# Altium footprint library QFN.PcbLib: 20 footprints (part 1 of 2)
Each footprint in its own frame and in the unit in brackets; x right, y up, seen from the top. Pads: shape width x height; smd on the part's side, far side on the other; paste and mask are expansions set on the pad; w line width, h text height; cw(c..) or ccw(c..) is an arc to the next point about the centre after c.
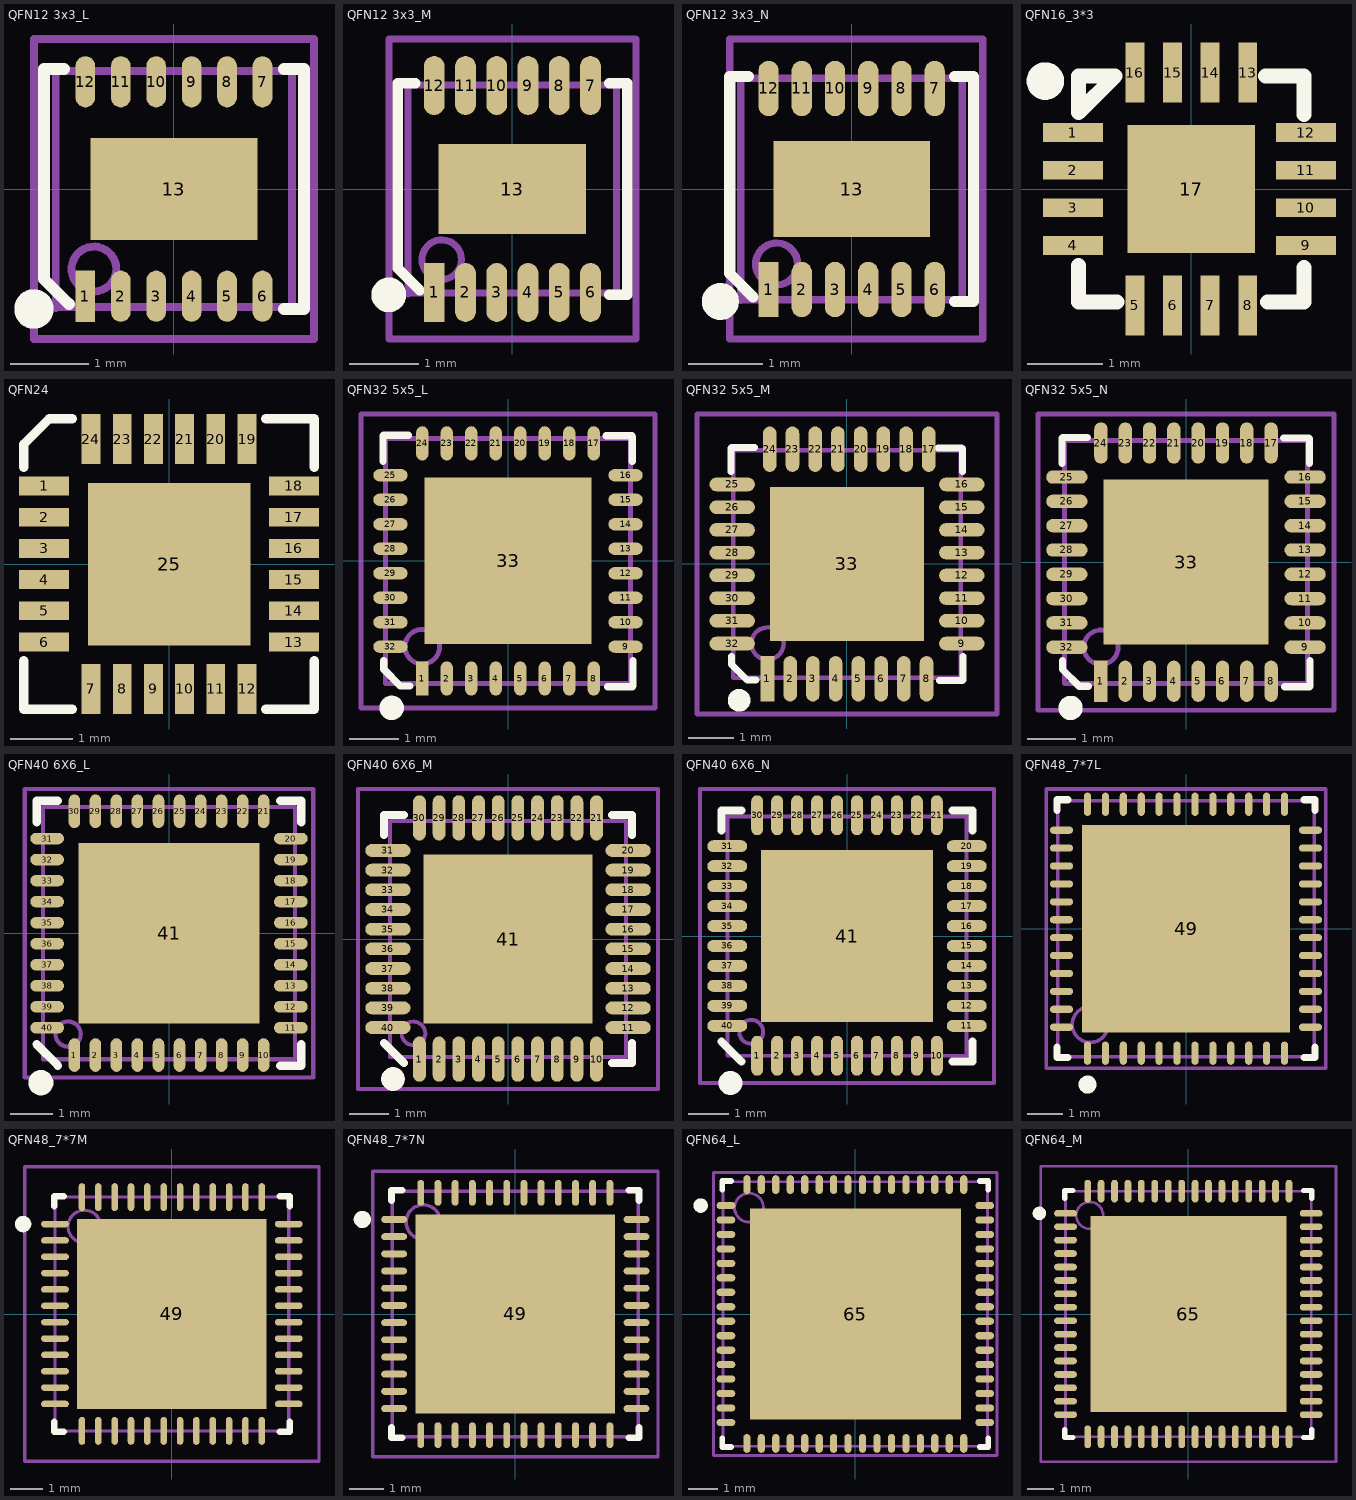
[diagram p0: the footprints below, top view; thin cyan lines are the x and y axes]

## QFN12 3x3_L [mm] "12脚，长：3mm，宽：3mm，高：0.6mm"
pads (13):
  rect 0.25x0.65 smd: 1(-1.125,-1.362)
  oval 0.25x0.65 smd: 2(-0.675,-1.362) 3(-0.225,-1.362) 4(0.225,-1.362) 5(0.675,-1.362) 6(1.125,-1.362) 7(1.125,1.362) 8(0.675,1.362) 9(0.225,1.362) 10(-0.225,1.362) 11(-0.675,1.362) 12(-1.125,1.362)
  rect 2.12x1.3 smd: 13(0,0)
Top Overlay:
  circle w0.25: c-1.778,-1.524 r0.125
  lines w0.15: -1.397,1.524 -1.651,1.524 -1.651,-1.143 -1.333,-1.46 ; 1.397,-1.524 1.651,-1.524 1.651,1.524 1.397,1.524
Mechanical 13:
  circle w0.1: c-1.016,-1.016 r0.284
  lines w0.1: 1.5,-1.5 -1.49,-1.5 -1.5,-1.51 -1.5,1.5 1.5,1.5 ; 1.5,-1.5 1.5,-1.5 ; 1.5,-1.5 1.5,1.5 ; 1.5,1.5 1.5,1.5
Mechanical 15:
  circle w0.05: c0,0 r0.35
  lines w0.05: -0.5,0 0.5,0 ; 0,-0.5 0,0.5
  lines w0.1: -1.778,-1.905 -1.778,1.905 1.778,1.905 1.778,-1.905 -1.778,-1.905
3D body: height 0.63, standoff 0, extent -1.5,-1.501 1.5,1.501

## QFN12 3x3_M [mm] "12脚，长：3mm，宽：3mm，高：0.6mm"
pads (13):
  rect 0.3x0.85 smd: 1(-1.125,-1.489)
  oval 0.3x0.85 smd: 2(-0.675,-1.489) 3(-0.225,-1.489) 4(0.225,-1.489) 5(0.675,-1.489) 6(1.125,-1.489) 7(1.125,1.489) 8(0.675,1.489) 9(0.225,1.489) 10(-0.225,1.489) 11(-0.675,1.489) 12(-1.125,1.489)
  rect 2.12x1.3 smd: 13(0,0)
Top Overlay:
  circle w0.25: c-1.778,-1.524 r0.125
  lines w0.15: -1.397,1.524 -1.651,1.524 -1.651,-1.143 -1.333,-1.46 ; 1.397,-1.524 1.651,-1.524 1.651,1.524 1.397,1.524
Mechanical 13:
  circle w0.1: c-1.016,-1.016 r0.284
  lines w0.1: 1.5,-1.5 -1.49,-1.5 -1.5,-1.51 -1.5,1.5 1.5,1.5 ; 1.5,-1.5 1.5,-1.5 ; 1.5,-1.5 1.5,1.5 ; 1.5,1.5 1.5,1.5
Mechanical 15:
  circle w0.05: c0,0 r0.35
  lines w0.05: -0.5,0 0.5,0 ; 0,-0.5 0,0.5
  lines w0.1: -1.778,-2.159 1.778,-2.159 1.778,2.159 -1.778,2.159 -1.778,-2.159
3D body: height 0.63, standoff 0, extent -1.5,-1.501 1.5,1.501

## QFN12 3x3_N [mm] "12脚，长：3mm，宽：3mm，高：0.6mm"
pads (13):
  rect 0.275x0.75 smd: 1(-1.125,-1.362)
  oval 0.275x0.75 smd: 2(-0.675,-1.362) 3(-0.225,-1.362) 4(0.225,-1.362) 5(0.675,-1.362) 6(1.125,-1.362) 7(1.125,1.362) 8(0.675,1.362) 9(0.225,1.362) 10(-0.225,1.362) 11(-0.675,1.362) 12(-1.125,1.362)
  rect 2.12x1.3 smd: 13(0,0)
Top Overlay:
  circle w0.25: c-1.778,-1.524 r0.125
  lines w0.15: -1.397,1.524 -1.651,1.524 -1.651,-1.143 -1.333,-1.46 ; 1.397,-1.524 1.651,-1.524 1.651,1.524 1.397,1.524
Mechanical 13:
  circle w0.1: c-1.016,-1.016 r0.284
  lines w0.1: 1.5,-1.5 1.5,1.5 ; 1.5,-1.5 1.5,-1.5 ; 1.5,-1.5 -1.49,-1.5 -1.5,-1.51 -1.5,1.5 1.5,1.5 ; 1.5,1.5 1.5,1.5
Mechanical 15:
  circle w0.05: c0,0 r0.35
  lines w0.05: -0.5,0 0.5,0 ; 0,-0.5 0,0.5
  lines w0.1: -1.651,-2.032 1.778,-2.032 1.778,2.032 -1.651,2.032 -1.651,-2.032
3D body: height 0.63, standoff 0, extent -1.5,-1.501 1.5,1.501

## QFN16_3*3 [mm] "QFN, 16-Leads, Body 3.0x3.0mm (max), Pitch 0.50mm, IPC Low Density"
height 3
pads (17):
  rect 0.8x0.25 smd: 1(-1.575,0.75) 2(-1.575,0.25) 3(-1.575,-0.25) 4(-1.575,-0.75) 9(1.524,-0.75) 10(1.524,-0.25) 11(1.524,0.25) 12(1.524,0.75)
  rect 0.25x0.8 smd: 5(-0.75,-1.55) 6(-0.25,-1.55) 7(0.25,-1.55) 8(0.75,-1.55) 13(0.75,1.55) 14(0.25,1.55) 15(-0.25,1.55) 16(-0.75,1.55)
  rect 1.7x1.7 smd: 17(0,0)
Top Overlay:
  circle w0.25: c-1.941,1.436 r0.125
  lines w0.2: -1.5,-1.015 -1.5,-1.5 -0.989,-1.5 ; 0.989,1.5 1.5,1.5 1.5,0.989 ; 1.016,-1.5 1.5,-1.5 1.5,-1.041 ; -1.5,1.016 -1.5,1.5 -1.016,1.5 -1.5,1.016
Mechanical 15:
  circle w0.05: c0,0 r0.35
  lines w0.05: -0.5,0 0.5,0 ; 0,-0.5 0,0.5
3D body: height 0.9, standoff 0, extent -1.549,-1.521 1.493,1.521

## QFN24 [mm]
pads (25):
  rect 0.8x0.3 smd: 1(-2,1.25) 2(-2,0.75) 3(-2,0.25) 4(-2,-0.25) 5(-2,-0.75) 6(-2,-1.25) 13(2,-1.25) 14(2,-0.75) 15(2,-0.25) 16(2,0.25) 17(2,0.75) 18(2,1.25)
  rect 0.3x0.8 smd: 7(-1.25,-2) 8(-0.75,-2) 9(-0.25,-2) 10(0.25,-2) 11(0.75,-2) 12(1.25,-2) 19(1.25,2) 20(0.75,2) 21(0.25,2) 22(-0.25,2) 23(-0.75,2) 24(-1.25,2)
  rect 2.6x2.6 smd: 25(0.005,0)
Top Overlay:
  lines w0.15: -2.325,-1.55 -2.325,-2.325 -1.55,-2.325 ; -2.325,1.55 -2.325,1.917 -1.917,2.325 -1.55,2.325 ; 1.55,-2.325 2.325,-2.325 2.325,-1.55 ; 1.55,2.325 2.325,2.325 2.325,1.55
Mechanical 15:
  circle w0.05: c0,0 r0.35
  lines w0.05: -0.5,0 0.5,0 ; 0,-0.5 0,0.5
3D body: height 0.9, standoff 0, extent -1.997,-2.002 2.007,2.002

## QFN32 5x5_L [mm] "32脚，长：5mm，宽：5mm，高：9.5mm"
pads (33):
  rect 0.25x0.7 smd: 1(-1.751,-2.4)
  oval 0.25x0.7 smd: 2(-1.25,-2.4) 3(-0.75,-2.4) 4(-0.25,-2.4) 5(0.25,-2.4) 6(0.75,-2.4) 7(1.25,-2.4) 8(1.75,-2.4) 17(1.75,2.4) 18(1.25,2.4) 19(0.75,2.4) 20(0.25,2.4) 21(-0.25,2.4) 22(-0.75,2.4) 23(-1.25,2.4) 24(-1.75,2.4)
  oval 0.7x0.25 smd: 9(2.4,-1.75) 10(2.4,-1.25) 11(2.4,-0.75) 12(2.4,-0.25) 13(2.4,0.25) 14(2.4,0.75) 15(2.4,1.25) 16(2.4,1.75) 25(-2.4,1.75) 26(-2.4,1.25) 27(-2.4,0.75) 28(-2.4,0.25) 29(-2.4,-0.25) 30(-2.4,-0.75) 31(-2.4,-1.25) 32(-2.4,-1.75)
  rect 3.4x3.4 smd: 33(0,0)
Top Overlay:
  circle w0.25: c-2.375,-3 r0.125
  lines w0.15: -2.553,2.032 -2.553,2.553 -2.54,2.565 -2.032,2.565 ; -2.54,-2.032 -2.54,-2.21 -2.197,-2.553 -2.007,-2.553 ; 2.007,2.553 2.527,2.553 2.54,2.54 2.54,2.032 ; 2.032,-2.565 2.54,-2.565 2.553,-2.553 2.553,-2.032
Mechanical 13:
  circle w0.1: c-1.75,-1.75 r0.354
  lines w0.1: 2.5,-2.501 2.5,2.501 -2.501,2.501 -2.501,-2.501 2.501,-2.501 ; 2.5,-2.501 2.501,-2.501
Mechanical 15:
  circle w0.05: c0,0 r0.35
  lines w0.05: -0.5,0 0.5,0 ; 0,-0.5 0,0.5
  lines w0.1: -3,-3 -3,3 3,3 3,-3 -3,-3
3D body: height 0.93, standoff 0, extent -2.501,-2.501 2.501,2.501

## QFN32 5x5_M [mm] "32脚，长：5mm，宽：5mm，高：9.5mm"
pads (33):
  rect 0.3x1 smd: 1(-1.751,-2.528)
  oval 0.3x1 smd: 2(-1.25,-2.528) 3(-0.75,-2.528) 4(-0.25,-2.528) 5(0.25,-2.528) 6(0.75,-2.528) 7(1.25,-2.528) 8(1.75,-2.528) 17(1.8,2.528) 18(1.3,2.528) 19(0.8,2.528) 20(0.3,2.528) 21(-0.2,2.528) 22(-0.7,2.528) 23(-1.2,2.528) 24(-1.7,2.528)
  oval 1x0.3 smd: 9(2.528,-1.75) 10(2.528,-1.25) 11(2.528,-0.75) 12(2.528,-0.25) 13(2.528,0.25) 14(2.528,0.75) 15(2.528,1.25) 16(2.528,1.75) 25(-2.528,1.75) 26(-2.528,1.25) 27(-2.528,0.75) 28(-2.528,0.25) 29(-2.528,-0.25) 30(-2.528,-0.75) 31(-2.528,-1.25) 32(-2.528,-1.75)
  rect 3.4x3.4 smd: 33(0,0)
Top Overlay:
  circle w0.25: c-2.375,-3 r0.125
  lines w0.15: -2.553,2.032 -2.553,2.553 -2.54,2.565 -2.032,2.565 ; -2.54,-2.032 -2.54,-2.21 -2.197,-2.553 -2.007,-2.553 ; 2.007,2.553 2.527,2.553 2.54,2.54 2.54,2.032 ; 2.032,-2.565 2.54,-2.565 2.553,-2.553 2.553,-2.032
Mechanical 13:
  circle w0.1: c-1.75,-1.75 r0.354
  lines w0.1: 2.5,-2.501 2.5,2.501 -2.501,2.501 -2.501,-2.501 2.501,-2.501 ; 2.5,-2.501 2.501,-2.501
Mechanical 15:
  circle w0.05: c0,0 r0.35
  lines w0.05: -0.5,0 0.5,0 ; 0,-0.5 0,0.5
  lines w0.1: -3.302,-3.302 -3.302,3.302 3.302,3.302 3.302,-3.302 -3.302,-3.302
3D body: height 0.93, standoff 0, extent -2.501,-2.501 2.501,2.501

## QFN32 5x5_N [mm] "32脚，长：5mm，宽：5mm，高：9.5mm"
pads (33):
  rect 0.275x0.85 smd: 1(-1.751,-2.451)
  oval 0.275x0.85 smd: 2(-1.25,-2.451) 3(-0.75,-2.451) 4(-0.25,-2.451) 5(0.25,-2.451) 6(0.75,-2.451) 7(1.25,-2.451) 8(1.75,-2.451) 17(1.75,2.451) 18(1.25,2.451) 19(0.75,2.451) 20(0.25,2.451) 21(-0.25,2.451) 22(-0.75,2.451) 23(-1.25,2.451) 24(-1.75,2.451)
  oval 0.85x0.275 smd: 9(2.451,-1.75) 10(2.451,-1.25) 11(2.451,-0.75) 12(2.451,-0.25) 13(2.451,0.25) 14(2.451,0.75) 15(2.451,1.25) 16(2.451,1.75) 25(-2.451,1.75) 26(-2.451,1.25) 27(-2.451,0.75) 28(-2.451,0.25) 29(-2.451,-0.25) 30(-2.451,-0.75) 31(-2.451,-1.25) 32(-2.451,-1.75)
  rect 3.4x3.4 smd: 33(0,0)
Top Overlay:
  circle w0.25: c-2.375,-3 r0.125
  lines w0.15: -2.553,2.032 -2.553,2.553 -2.54,2.565 -2.032,2.565 ; -2.54,-2.032 -2.54,-2.21 -2.197,-2.553 -2.007,-2.553 ; 2.007,2.553 2.527,2.553 2.54,2.54 2.54,2.032 ; 2.032,-2.565 2.54,-2.565 2.553,-2.553 2.553,-2.032
Mechanical 13:
  circle w0.1: c-1.75,-1.75 r0.354
  lines w0.1: 2.5,-2.501 2.5,2.501 -2.501,2.501 -2.501,-2.501 2.501,-2.501 ; 2.5,-2.501 2.501,-2.501
Mechanical 15:
  circle w0.05: c0,0 r0.35
  lines w0.05: -0.5,0 0.5,0 ; 0,-0.5 0,0.5
  lines w0.1: -3.048,-3.048 -3.048,3.048 3.048,3.048 3.048,-3.048 -3.048,-3.048
3D body: height 0.93, standoff 0, extent -2.501,-2.501 2.501,2.501

## QFN40 6X6_L [mm] "40脚，体宽：6x6mm，脚距：0.5mm"
pads (41):
  oval 0.275x0.8 smd mask+0.051: 1(-2.25,-2.898) 2(-1.75,-2.898) 3(-1.25,-2.898) 4(-0.75,-2.898) 5(-0.25,-2.898) 6(0.25,-2.898) 7(0.75,-2.898) 8(1.25,-2.898) 9(1.75,-2.898) 10(2.25,-2.898) 21(2.25,2.898) 22(1.75,2.898) 23(1.25,2.898) 24(0.75,2.898) 25(0.25,2.898) 26(-0.25,2.898) 27(-0.75,2.898) 28(-1.25,2.898) 29(-1.75,2.898) 30(-2.25,2.898)
  oval 0.8x0.275 smd mask+0.051: 11(2.898,-2.25) 12(2.898,-1.75) 13(2.898,-1.25) 14(2.898,-0.75) 15(2.898,-0.25) 16(2.898,0.25) 17(2.898,0.75) 18(2.898,1.25) 19(2.898,1.75) 20(2.898,2.25) 31(-2.898,2.25) 32(-2.898,1.75) 33(-2.898,1.25) 34(-2.898,0.75) 35(-2.898,0.25) 36(-2.898,-0.25) 37(-2.898,-0.75) 38(-2.898,-1.25) 39(-2.898,-1.75) 40(-2.898,-2.25)
  rect 4.3x4.3 smd mask+0.051: 41(0,0)
Top Overlay:
  circle w0.3: c-3.048,-3.556 r0.15
  lines w0.2: -3.15,-2.642 -2.642,-3.15 ; -3.15,2.642 -3.15,3.15 -2.642,3.15 ; 2.642,-3.15 3.15,-3.15 3.15,-2.642 ; 2.642,3.15 3.15,3.15 3.15,2.642
Mechanical 13:
  circle w0.1: c-2.4,-2.4 r0.3
  lines w0.1: -3,-3 3,-3 3,3 -3,3 -3,-3
Mechanical 15:
  circle w0.05: c0,0 r0.35
  lines w0.05: -0.5,0 0.5,0 ; 0,-0.5 0,0.5
  lines w0.1: -3.429,-3.429 3.429,-3.429 3.429,3.429 -3.429,3.429 -3.429,-3.429
3D body: height 0.95, standoff -0.02, extent -3.01,-3.01 3.01,3.01

## QFN40 6X6_M [mm] "40脚，体宽：6x6mm，脚距：0.5mm"
pads (41):
  oval 0.325x1.15 smd mask+0.051: 1(-2.25,-3.051) 2(-1.75,-3.051) 3(-1.25,-3.051) 4(-0.75,-3.051) 5(-0.25,-3.051) 6(0.25,-3.051) 7(0.75,-3.051) 8(1.25,-3.051) 9(1.75,-3.051) 10(2.25,-3.051) 21(2.25,3.076) 22(1.75,3.076) 23(1.25,3.076) 24(0.75,3.076) 25(0.25,3.076) 26(-0.25,3.076) 27(-0.75,3.076) 28(-1.25,3.076) 29(-1.75,3.076) 30(-2.25,3.076)
  oval 1.15x0.325 smd mask+0.051: 11(3.051,-2.25) 12(3.051,-1.75) 13(3.051,-1.25) 14(3.051,-0.75) 15(3.051,-0.25) 16(3.051,0.25) 17(3.051,0.75) 18(3.051,1.25) 19(3.051,1.75) 20(3.051,2.25) 31(-3.051,2.25) 32(-3.051,1.75) 33(-3.051,1.25) 34(-3.051,0.75) 35(-3.051,0.25) 36(-3.051,-0.25) 37(-3.051,-0.75) 38(-3.051,-1.25) 39(-3.051,-1.75) 40(-3.051,-2.25)
  rect 4.3x4.3 smd mask+0.051: 41(0,0)
Top Overlay:
  circle w0.3: c-2.921,-3.556 r0.15
  lines w0.2: -3.15,-2.642 -2.642,-3.15 ; -3.15,2.642 -3.15,3.15 -2.642,3.15 ; 2.642,-3.15 3.15,-3.15 3.15,-2.642 ; 2.642,3.15 3.15,3.15 3.15,2.642
Mechanical 13:
  circle w0.1: c-2.4,-2.4 r0.3
  lines w0.1: -3,-3 3,-3 3,3 -3,3 -3,-3
Mechanical 15:
  circle w0.05: c0,0 r0.35
  lines w0.05: -0.5,0 0.5,0 ; 0,-0.5 0,0.5
  lines w0.1: -3.81,-3.81 -3.81,3.81 3.81,3.81 3.81,-3.81 -3.81,-3.81
3D body: height 0.9, standoff -0.07, extent -3.01,-3.01 3.01,3.01

## QFN40 6X6_N [mm] "40脚，体宽：6x6mm，脚距：0.5mm"
pads (41):
  oval 0.3x1 smd mask+0.051: 1(-2.25,-3) 2(-1.75,-3) 3(-1.25,-3) 4(-0.75,-3) 5(-0.25,-3) 6(0.25,-3) 7(0.75,-3) 8(1.25,-3) 9(1.75,-3) 10(2.25,-3) 21(2.25,3.025) 22(1.75,3.025) 23(1.25,3.025) 24(0.75,3.025) 25(0.25,3.025) 26(-0.25,3.025) 27(-0.75,3.025) 28(-1.25,3.025) 29(-1.75,3.025) 30(-2.25,3.025)
  oval 1x0.3 smd mask+0.051: 11(3,-2.25) 12(3,-1.75) 13(3,-1.25) 14(3,-0.75) 15(3,-0.25) 16(3,0.25) 17(3,0.75) 18(3,1.25) 19(3,1.75) 20(3,2.25) 31(-3,2.25) 32(-3,1.75) 33(-3,1.25) 34(-3,0.75) 35(-3,0.25) 36(-3,-0.25) 37(-3,-0.75) 38(-3,-1.25) 39(-3,-1.75) 40(-3,-2.25)
  rect 4.3x4.3 smd mask+0.051: 41(0,0)
Top Overlay:
  circle w0.3: c-2.921,-3.683 r0.15
  lines w0.2: -3.15,-2.642 -2.642,-3.15 ; -3.15,2.642 -3.15,3.15 -2.642,3.15 ; 2.642,-3.15 3.15,-3.15 3.15,-2.642 ; 2.642,3.15 3.15,3.15 3.15,2.642
Mechanical 13:
  circle w0.1: c-2.4,-2.4 r0.3
  lines w0.1: -3,-3 3,-3 3,3 -3,3 -3,-3
Mechanical 15:
  circle w0.05: c0,0 r0.35
  lines w0.05: -0.5,0 0.5,0 ; 0,-0.5 0,0.5
  lines w0.1: -3.683,-3.683 3.683,-3.683 3.683,3.683 -3.683,3.683 -3.683,-3.683
3D body: height 0.95, standoff -0.02, extent -3.01,-3.01 3.01,3.01

## QFN48_7*7L [mm] "QFN, 48-Leads, Body 7x7mm, Pitch 0.5mm, IPC High Density"
height 0.9
pads (49):
  oval 0.2x0.65 smd: 1(-2.75,-3.475) 2(-2.25,-3.475) 3(-1.75,-3.475) 4(-1.25,-3.475) 5(-0.75,-3.475) 6(-0.25,-3.475) 7(0.25,-3.475) 8(0.75,-3.475) 9(1.25,-3.475) 10(1.75,-3.475) 11(2.25,-3.475) 12(2.75,-3.475) 25(2.75,3.475) 26(2.25,3.475) 27(1.75,3.475) 28(1.25,3.475) 29(0.75,3.475) 30(0.25,3.475) 31(-0.25,3.475) 32(-0.75,3.475) 33(-1.25,3.475) 34(-1.75,3.475) 35(-2.25,3.475) 36(-2.75,3.475)
  oval 0.65x0.2 smd: 13(3.475,-2.75) 14(3.475,-2.25) 15(3.475,-1.75) 16(3.475,-1.25) 17(3.475,-0.75) 18(3.475,-0.25) 19(3.475,0.25) 20(3.475,0.75) 21(3.475,1.25) 22(3.475,1.75) 23(3.475,2.25) 24(3.475,2.75) 37(-3.475,2.75) 38(-3.475,2.25) 39(-3.475,1.75) 40(-3.475,1.25) 41(-3.475,0.75) 42(-3.475,0.25) 43(-3.475,-0.25) 44(-3.475,-0.75) 45(-3.475,-1.25) 46(-3.475,-1.75) 47(-3.475,-2.25) 48(-3.475,-2.75)
  rect 5.8x5.8 smd: 49(0,0)
Top Overlay:
  circle w0.25: c-2.75,-4.35 r0.125
  lines w0.2: -3.6,-3.3 -3.6,-3.6 -3.3,-3.6 ; -3.6,3.3 -3.6,3.6 -3.3,3.6 ; 3.3,-3.6 3.6,-3.6 3.6,-3.3 ; 3.3,3.6 3.6,3.6 3.6,3.3
Mechanical 13:
  circle w0.1: c-2.675,-2.675 r0.5
  lines w0.1: -3.575,-3.575 3.575,-3.575 3.575,3.575 -3.575,3.575 -3.575,-3.575
Mechanical 15:
  circle w0.05: c0,0 r0.35
  lines w0.05: -0.5,0 0.5,0 ; 0,-0.5 0,0.5
  lines w0.1: -3.9,-3.9 3.9,-3.9 3.9,3.9 -3.9,3.9 -3.9,-3.9
3D body: height 0.78, standoff -0.02, extent -3.51,-3.51 3.51,3.51

## QFN48_7*7M [mm] "QFN, 48-Leads, Body 7x7mm, Pitch 0.5mm, IPC Low Density"
height 0.9
pads (49):
  oval 0.85x0.2 smd: 1(-3.575,2.75) 2(-3.575,2.25) 3(-3.575,1.75) 4(-3.575,1.25) 5(-3.575,0.75) 6(-3.575,0.25) 7(-3.575,-0.25) 8(-3.575,-0.75) 9(-3.575,-1.25) 10(-3.575,-1.75) 11(-3.575,-2.25) 12(-3.575,-2.75) 25(3.575,-2.75) 26(3.575,-2.25) 27(3.575,-1.75) 28(3.575,-1.25) 29(3.575,-0.75) 30(3.575,-0.25) 31(3.575,0.25) 32(3.575,0.75) 33(3.575,1.25) 34(3.575,1.75) 35(3.575,2.25) 36(3.575,2.75)
  oval 0.2x0.85 smd: 13(-2.75,-3.575) 14(-2.25,-3.575) 15(-1.75,-3.575) 16(-1.25,-3.575) 17(-0.75,-3.575) 18(-0.25,-3.575) 19(0.25,-3.575) 20(0.75,-3.575) 21(1.25,-3.575) 22(1.75,-3.575) 23(2.25,-3.575) 24(2.75,-3.575) 37(2.75,3.575) 38(2.25,3.575) 39(1.75,3.575) 40(1.25,3.575) 41(0.75,3.575) 42(0.25,3.575) 43(-0.25,3.575) 44(-0.75,3.575) 45(-1.25,3.575) 46(-1.75,3.575) 47(-2.25,3.575) 48(-2.75,3.575)
  rect 5.8x5.8 smd: 49(0,0)
Top Overlay:
  circle w0.25: c-4.55,2.75 r0.125
  lines w0.2: -3.6,-3.3 -3.6,-3.6 -3.3,-3.6 ; -3.6,3.3 -3.6,3.6 -3.3,3.6 ; 3.3,-3.6 3.6,-3.6 3.6,-3.3 ; 3.3,3.6 3.6,3.6 3.6,3.3
Mechanical 13:
  circle w0.1: c-2.675,2.675 r0.5
  lines w0.1: -3.575,-3.575 3.575,-3.575 3.575,3.575 -3.575,3.575 -3.575,-3.575
Mechanical 15:
  circle w0.05: c0,0 r0.35
  lines w0.05: -0.5,0 0.5,0 ; 0,-0.5 0,0.5
  lines w0.1: -4.5,-4.5 4.5,-4.5 4.5,4.5 -4.5,4.5 -4.5,-4.5
3D body: height 0.78, standoff -0.02, extent -3.51,-3.51 3.51,3.51

## QFN48_7*7N [mm] "QFN, 48-Leads, Body 7x7mm, Pitch 0.5mm, IPC Medium Density"
height 0.9
pads (49):
  oval 0.75x0.2 smd: 1(-3.525,2.75) 2(-3.525,2.25) 3(-3.525,1.75) 4(-3.525,1.25) 5(-3.525,0.75) 6(-3.525,0.25) 7(-3.525,-0.25) 8(-3.525,-0.75) 9(-3.525,-1.25) 10(-3.525,-1.75) 11(-3.525,-2.25) 12(-3.525,-2.75) 25(3.525,-2.75) 26(3.525,-2.25) 27(3.525,-1.75) 28(3.525,-1.25) 29(3.525,-0.75) 30(3.525,-0.25) 31(3.525,0.25) 32(3.525,0.75) 33(3.525,1.25) 34(3.525,1.75) 35(3.525,2.25) 36(3.525,2.75)
  oval 0.2x0.75 smd: 13(-2.75,-3.525) 14(-2.25,-3.525) 15(-1.75,-3.525) 16(-1.25,-3.525) 17(-0.75,-3.525) 18(-0.25,-3.525) 19(0.25,-3.525) 20(0.75,-3.525) 21(1.25,-3.525) 22(1.75,-3.525) 23(2.25,-3.525) 24(2.75,-3.525) 37(2.75,3.525) 38(2.25,3.525) 39(1.75,3.525) 40(1.25,3.525) 41(0.75,3.525) 42(0.25,3.525) 43(-0.25,3.525) 44(-0.75,3.525) 45(-1.25,3.525) 46(-1.75,3.525) 47(-2.25,3.525) 48(-2.75,3.525)
  rect 5.8x5.8 smd: 49(0,0)
Top Overlay:
  circle w0.25: c-4.45,2.75 r0.125
  lines w0.2: -3.6,-3.3 -3.6,-3.6 -3.3,-3.6 ; -3.6,3.3 -3.6,3.6 -3.3,3.6 ; 3.3,-3.6 3.6,-3.6 3.6,-3.3 ; 3.3,3.6 3.6,3.6 3.6,3.3
Mechanical 13:
  circle w0.1: c-2.675,2.675 r0.5
  lines w0.1: -3.575,-3.575 -3.575,3.575 3.575,3.575 3.575,-3.575 -3.575,-3.575
Mechanical 15:
  circle w0.05: c0,0 r0.35
  lines w0.05: -0.5,0 0.5,0 ; 0,-0.5 0,0.5
  lines w0.1: -4.15,-4.15 -4.15,4.15 4.15,4.15 4.15,-4.15 -4.15,-4.15
3D body: height 0.78, standoff -0.02, extent -3.51,-3.51 3.51,3.51

## QFN64_L [mm] "QFN, 64-Leads, Body 9x9mm, Pitch 0.5mm, IPC High Density"
height 1
pads (65):
  oval 0.65x0.25 smd: 1(-4.475,3.75) 2(-4.475,3.25) 3(-4.475,2.75) 4(-4.475,2.25) 5(-4.475,1.75) 6(-4.475,1.25) 7(-4.475,0.75) 8(-4.475,0.25) 9(-4.475,-0.25) 10(-4.475,-0.75) 11(-4.475,-1.25) 12(-4.475,-1.75) 13(-4.475,-2.25) 14(-4.475,-2.75) 15(-4.475,-3.25) 16(-4.475,-3.75) 33(4.475,-3.75) 34(4.475,-3.25) 35(4.475,-2.75) 36(4.475,-2.25) 37(4.475,-1.75) 38(4.475,-1.25) 39(4.475,-0.75) 40(4.475,-0.25) 41(4.475,0.25) 42(4.475,0.75) 43(4.475,1.25) 44(4.475,1.75) 45(4.475,2.25) 46(4.475,2.75) 47(4.475,3.25) 48(4.475,3.75)
  oval 0.25x0.65 smd: 17(-3.75,-4.475) 18(-3.25,-4.475) 19(-2.75,-4.475) 20(-2.25,-4.475) 21(-1.75,-4.475) 22(-1.25,-4.475) 23(-0.75,-4.475) 24(-0.25,-4.475) 25(0.25,-4.475) 26(0.75,-4.475) 27(1.25,-4.475) 28(1.75,-4.475) 29(2.25,-4.475) 30(2.75,-4.475) 31(3.25,-4.475) 32(3.75,-4.475) 49(3.75,4.475) 50(3.25,4.475) 51(2.75,4.475) 52(2.25,4.475) 53(1.75,4.475) 54(1.25,4.475) 55(0.75,4.475) 56(0.25,4.475) 57(-0.25,4.475) 58(-0.75,4.475) 59(-1.25,4.475) 60(-1.75,4.475) 61(-2.25,4.475) 62(-2.75,4.475) 63(-3.25,4.475) 64(-3.75,4.475)
  rect 7.3x7.3 smd: 65(0,0)
Top Overlay:
  circle w0.25: c-5.35,3.75 r0.125
  lines w0.2: -4.6,-4.3 -4.6,-4.6 -4.3,-4.6 ; -4.6,4.3 -4.6,4.6 -4.3,4.6 ; 4.3,-4.6 4.6,-4.6 4.6,-4.3 ; 4.3,4.6 4.6,4.6 4.6,4.3
Mechanical 13:
  circle w0.1: c-3.675,3.675 r0.5
  lines w0.1: -4.575,-4.575 4.575,-4.575 4.575,4.575 -4.575,4.575 -4.575,-4.575
Mechanical 15:
  circle w0.05: c0,0 r0.35
  lines w0.05: -0.5,0 0.5,0 ; 0,-0.5 0,0.5
  lines w0.1: -4.9,-4.9 4.9,-4.9 4.9,4.9 -4.9,4.9 -4.9,-4.9
3D body: height 0.9, standoff 0, extent -4.52,-4.52 4.52,4.52

## QFN64_M [mm] "QFN, 64-Leads, Body 9x9mm, Pitch 0.5mm, IPC Low Density"
height 1
pads (65):
  oval 0.85x0.25 smd: 1(-4.575,3.75) 2(-4.575,3.25) 3(-4.575,2.75) 4(-4.575,2.25) 5(-4.575,1.75) 6(-4.575,1.25) 7(-4.575,0.75) 8(-4.575,0.25) 9(-4.575,-0.25) 10(-4.575,-0.75) 11(-4.575,-1.25) 12(-4.575,-1.75) 13(-4.575,-2.25) 14(-4.575,-2.75) 15(-4.575,-3.25) 16(-4.575,-3.75) 33(4.575,-3.75) 34(4.575,-3.25) 35(4.575,-2.75) 36(4.575,-2.25) 37(4.575,-1.75) 38(4.575,-1.25) 39(4.575,-0.75) 40(4.575,-0.25) 41(4.575,0.25) 42(4.575,0.75) 43(4.575,1.25) 44(4.575,1.75) 45(4.575,2.25) 46(4.575,2.75) 47(4.575,3.25) 48(4.575,3.75)
  oval 0.25x0.85 smd: 17(-3.75,-4.575) 18(-3.25,-4.575) 19(-2.75,-4.575) 20(-2.25,-4.575) 21(-1.75,-4.575) 22(-1.25,-4.575) 23(-0.75,-4.575) 24(-0.25,-4.575) 25(0.25,-4.575) 26(0.75,-4.575) 27(1.25,-4.575) 28(1.75,-4.575) 29(2.25,-4.575) 30(2.75,-4.575) 31(3.25,-4.575) 32(3.75,-4.575) 49(3.75,4.575) 50(3.25,4.575) 51(2.75,4.575) 52(2.25,4.575) 53(1.75,4.575) 54(1.25,4.575) 55(0.75,4.575) 56(0.25,4.575) 57(-0.25,4.575) 58(-0.75,4.575) 59(-1.25,4.575) 60(-1.75,4.575) 61(-2.25,4.575) 62(-2.75,4.575) 63(-3.25,4.575) 64(-3.75,4.575)
  rect 7.3x7.3 smd: 65(0,0)
Top Overlay:
  circle w0.25: c-5.55,3.75 r0.125
  lines w0.2: -4.6,-4.3 -4.6,-4.6 -4.3,-4.6 ; -4.6,4.3 -4.6,4.6 -4.3,4.6 ; 4.3,-4.6 4.6,-4.6 4.6,-4.3 ; 4.3,4.6 4.6,4.6 4.6,4.3
Mechanical 13:
  circle w0.1: c-3.675,3.675 r0.5
  lines w0.1: -4.575,-4.575 4.575,-4.575 4.575,4.575 -4.575,4.575 -4.575,-4.575
Mechanical 15:
  circle w0.05: c0,0 r0.35
  lines w0.05: -0.5,0 0.5,0 ; 0,-0.5 0,0.5
  lines w0.1: -5.5,-5.5 5.5,-5.5 5.5,5.5 -5.5,5.5 -5.5,-5.5
3D body: height 0.9, standoff 0, extent -4.52,-4.52 4.52,4.52